# Altium schematic symbol library coil.SchLib: 1 symbol
Pins are listed as number, name and electrical type; pins without a type are passive.

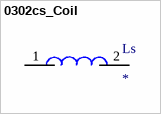
[diagram p0: symbol 0302cs_Coil]

## 0302cs_Coil
designator Ls
footprint 0302CS SERIES (Coilcraft Chip Inductor)
pins: 1, 2